# EAGLE library part XFMR-T50-DUAL_SEC-HOR (library NewSDR)
This is a bifilar winding layout for the Phase/Mag bridge.
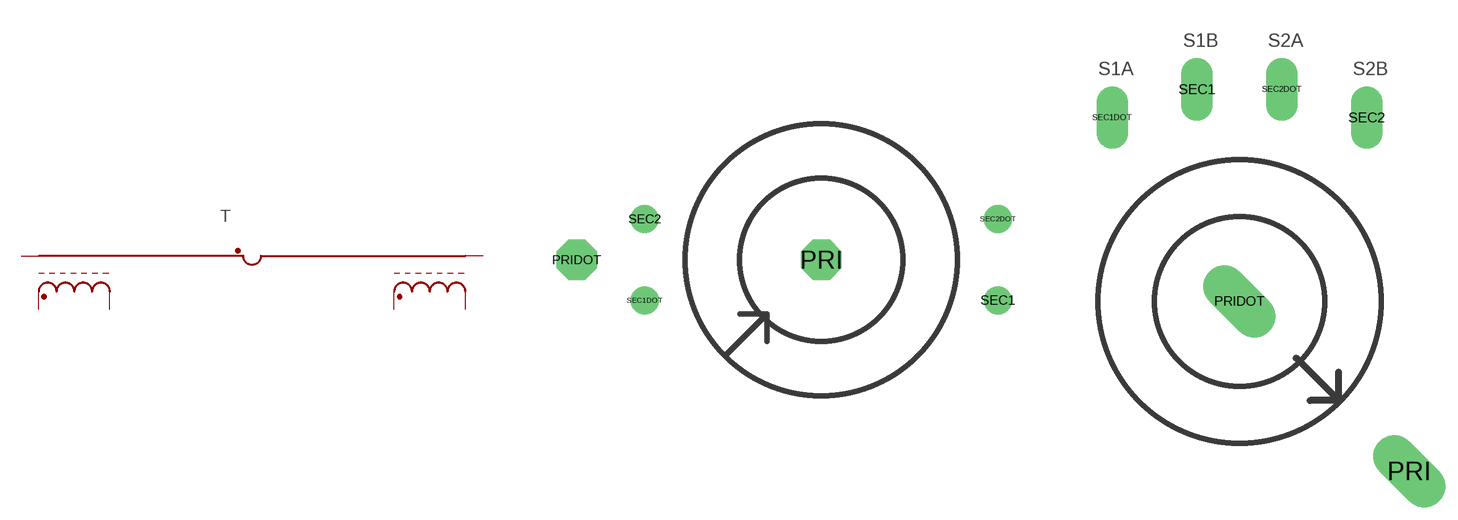
[diagram p85: symbol with the pads of T50-HOR-DUAL_SEC; footprints T50-HOR-DUAL_SEC, T50-P_M-BIFILAR]

Designator prefix T

## XFMR-T50-DUAL_SEC-HOR  [T50-HOR-DUAL_SEC]
PRI  P2  pas
PRIDOT  P1  pas
SEC1  S1B  pas
SEC1DOT  S1A  pas
SEC2  S2B  pas
SEC2DOT  S2A  pas

## XFMR-T50-DUAL_SEC-HOR-BIFILAR  [T50-P_M-BIFILAR]
Pads as for T50-HOR-DUAL_SEC

## Footprint T50-HOR-DUAL_SEC (pad centres in mm)
Phase/Mag transformer used on Nina. T50 core with DUAL SEC
drill 1.27 octagon: PRI 0,0; PRIDOT -11.43,0
drill 0.813: SEC1 8.255,-1.905; SEC1DOT -8.255,-1.905
drill 0.8: SEC2 -8.255,1.905; SEC2DOT 8.255,1.905

## Footprint T50-P_M-BIFILAR (pad centres in mm)
T50 core used for Phase/Mag circuit Bifilar wound.
drill 1.27 long: PRI 7.62,-7.62; PRIDOT 0,0
drill 0.9 long: SEC1 -1.905,9.525; SEC1DOT -5.715,8.255; SEC2 5.715,8.255; SEC2DOT 1.905,9.525